# Altium schematic symbol library GE310-GNSS.SchLib: 1 symbol
Pins are listed as number, name and electrical type; pins without a type are passive.

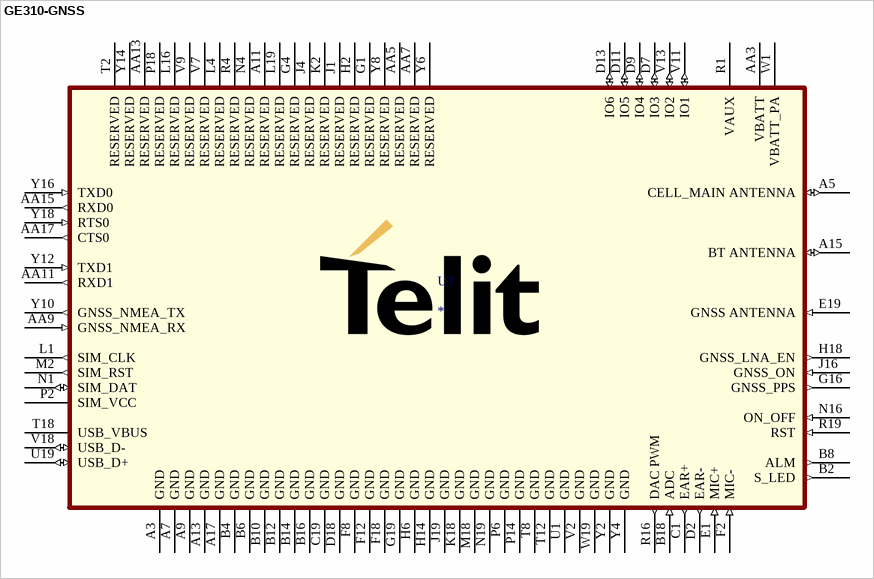
[diagram p0: symbol GE310-GNSS]

## GE310-GNSS
designator U?
GE310-GNSS Cellular Modem
footprint LGA_GE310 (GE310-GNSS LGA 18.20 x 15.20 mm)
pins: A3 GND (power) "RF Ground", A5 CELL_MAIN ANTENNA (io) "2G Main Antenna (50 ohm)", A7 GND (power) "RF Ground", A9 GND (power) "RF Ground", A11 RESERVED "Reserved", A13 GND (power) "RF Ground", A15 BT ANTENNA (io) "Bluetooth Antenna", A17 GND (power) "RF Ground", AA3 VBATT (power) "Main power supply (Baseband)", AA5 RESERVED "Reserved", AA7 RESERVED "Reserved", AA9 GNSS_NMEA_RX (in) "GNSS UART (RX Data from DTE)", AA11 RXD1 (out) "Serial data output (RXD) to DTE", AA13 RESERVED "Reserved", AA15 RXD0 (out) "Serial data output (RXD) to DTE", AA17 CTS0 (out) "Output for Clear to send signal (CTS) to DTE", B2 S_LED (out) "Status LED", B4 GND (power) "RF Ground", B6 GND (power) "RF Ground", B8 ALM (out) "Alarm - RTC Indicator", B10 GND (power) "RF Ground", B12 GND (power) "RF Ground", B14 GND (power) "RF Ground", B16 GND (power) "RF Ground", B18 ADC (in) "Analog To Digital converter Input", C1 EAR+ (out) "Analog Audio (EAR+)", C19 GND (power) "RF Ground", D2 EAR- (out) "Analog Audio (EAR-)", D7 IO3 (io) "Configurable GPIO03", D9 IO4 (io) "Configurable GPIO04", D11 IO5 (io) "Configurable GPIO05", D13 IO6 (io) "Configurable GPIO06", D18 GND (power) "RF Ground", E1 MIC+ (in) "Analog Audio (MIC+)", E19 GNSS ANTENNA (in) "GNSS Antenna", F2 MIC- (in) "Analog Audio (MIC-)", F8 GND (power) "Thermal Ground", F12 GND (power) "Thermal Ground", F18 GND (power) "Thermal Ground", G1 RESERVED "Reserved", G4 RESERVED "Reserved", G16 GNSS_PPS (out) "1 Pulse per Second", G19 GND (power) "Thermal Ground", H2 RESERVED "Reserved", H6 GND (power) "Thermal Ground", H14 GND (power) "Thermal Ground", H18 GNSS_LNA_EN (out) "GNSS external LNA enable", J1 RESERVED "Reserved", J4 RESERVED "Reserved", J16 GNSS_ON (in) "GNSS Receiver Enable", J19 GND (power) "Thermal Ground", K2 RESERVED "Reserved", K18 GND (power) "Thermal Ground", L1 SIM_CLK (out) "External SIM signal – Clock", L4 RESERVED "Reserved", L16 RESERVED "Reserved", L19 RESERVED "Reserved", M2 SIM_RST (out) "External SIM signal – Reset", M18 GND (power) "Thermal Ground", N1 SIM_DAT (io) "External SIM signal – Data I/O", N4 RESERVED "Reserved", N16 ON_OFF (in) "Input Command for Power ON/OFF", N19 GND (power) "Thermal Ground", P2 SIM_VCC (power) "External SIM signal – Power supply for the SIM", P6 GND (power) "Thermal Ground", P14 GND (power) "Thermal Ground", P18 RESERVED "Reserved", R1 VAUX (power) "Supply Output for external accessories / Power ON Monitor", R4 RESERVED "Reserved", R16 DAC PWM (out) "Digital To Analog converter Output", R19 RST (in) "Reset", T2 RESERVED "Reserved", T8 GND (power) "Thermal Ground", T12 GND (power) "Thermal Ground", T18 USB_VBUS "Power sense for the internal USB transceiver", U1 GND (power) "Power Ground", U19 USB_D+ (io) "USB differential Data (+)", V2 GND (power) "Power Ground", V7 RESERVED "Reserved", V9 RESERVED "Reserved", V11 IO1 (io) "Configurable GPIO01", V13 IO2 (io) "Configurable GPIO02", V18 USB_D- (io) "USB differential Data (-)", W1 VBATT_PA "Main power supply (Radio PA)", W19 GND (power) "Power Ground", Y2 GND (power) "Power Ground", Y4 GND (power) "Power Ground", Y6 RESERVED "Reserved", Y8 RESERVED "Reserved", Y10 GNSS_NMEA_TX (out) "GNSS UART UART (TX Data to DTE)", Y12 TXD1 (in) "Serial data input (TXD) from DTE", Y14 RESERVED "Reserved", Y16 TXD0 (in) "Serial data input (TXD) from DTE", Y18 RTS0 (in) "Input for Request to send signal (RTS) from DTE"